# Altium schematic symbol library TPS82698SIPR.SchLib: 1 symbol
Pins are listed as number, name and electrical type; pins without a type are passive.

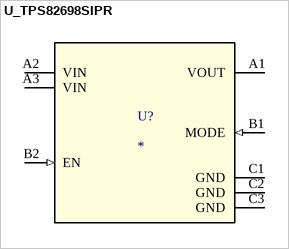
[diagram p0: symbol U_TPS82698SIPR]

## U_TPS82698SIPR
designator U?
Non-Isolated PoL Module DC DC Converter 1 Output 3V 800mA 2.3V - 4.8V Input; Mfr_Name: Texas Instruments; TYPE: TYPE; RefDes: RefDes
footprint SIP0008A
pins: A1 VOUT (power), A2 VIN (power), A3 VIN (power), B1 MODE (in), B2 EN (in), C1 GND (power), C2 GND (power), C3 GND (power)